# EAGLE library part FS312F-G (library FS312F-G)
One Cell Lithium-ion/Polymer Battery Protection IC Source: Datasheet <https://www.ic-fortune.com/upload/Download/FS312F-G-DS-12_EN.pdf>
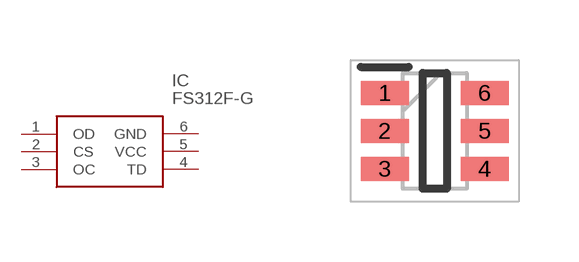
[diagram p0: symbol with the pads of SOT95P280X145-6N; footprint SOT95P280X145-6N]

Designator prefix IC

## FS312F-G (Arrow_Part_Number: FS312F-G; Description: One Cell Lithium-ion/Polymer Battery Protection IC; Height: 1.45mm; Manufacturer_Name: Fortune Semiconductor Corporation; Manufacturer_Part_Number: FS312F-G)  [SOT95P280X145-6N]
1  OD
2  CS
3  OC
4  TD
5  VCC
6  GND

## Footprint SOT95P280X145-6N (pad centres in mm)
SOT-23-6
smd 1.2 x 0.6: 1 -1.25,0.95; 2 -1.25,0; 3 -1.25,-0.95; 4 1.25,-0.95; 5 1.25,0; 6 1.25,0.95